# EAGLE library part THS7530 (library IC)
Tesxas Instruments THS7530 High-Speed, Fully Differential, Continuously variable Gain Amplifier
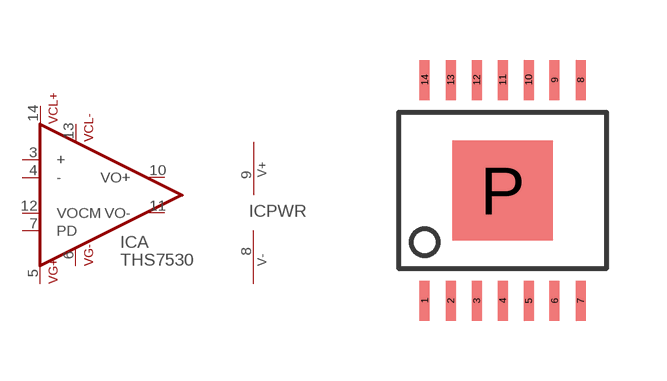
[diagram p128: symbol with the pads of TSSOP14_P; footprint TSSOP14_P]

Designator prefix IC; gates A=THS7530 PWR=PWR_V+_V-

## THS7530  [TSSOP14_P]
3  A:+
4  A:-
5  A:VG+
6  A:VG-
7  A:PD
8  PWR:V-  pwr
9  PWR:V+  pwr
10  A:VO+
11  A:VO-
12  A:VOCM
13  A:VCL-
14  A:VCL+

## Footprint TSSOP14_P (pad centres in mm)
TSSOP14 with an exposed Thermal Pad
smd 0.25 x 1: 1 -1.95,-2.763; 2 -1.3,-2.763; 3 -0.65,-2.763; 4 0,-2.763; 5 0.65,-2.763; 6 1.3,-2.763; 7 1.95,-2.763; 8 1.95,2.763; 9 1.3,2.763; 10 0.65,2.763; 11 0,2.763; 12 -0.65,2.763; 13 -1.3,2.763; 14 -1.95,2.763
smd 2.5 x 2.5: P 0,0